# Altium footprint library SMD Capacitors 0603.PcbLib: 5 footprints
Each footprint in its own frame and in the unit in brackets; x right, y up, seen from the top. Pads: shape width x height; smd on the part's side, far side on the other; paste and mask are expansions set on the pad; w line width, h text height; cw(c..) or ccw(c..) is an arc to the next point about the centre after c.
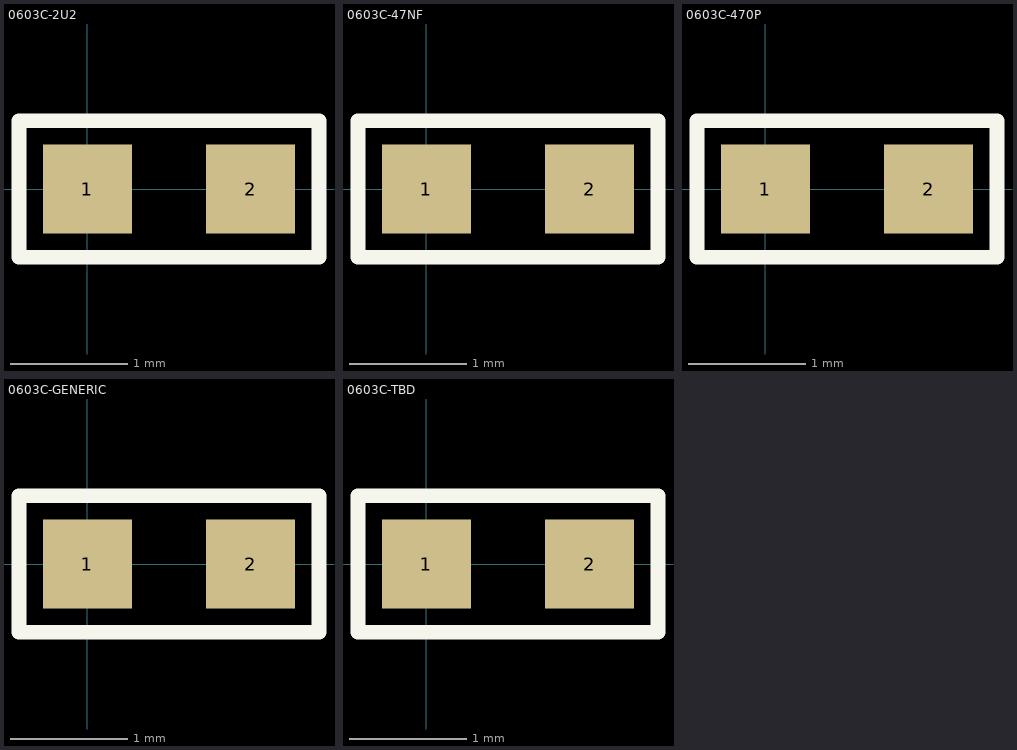
[diagram p0: the footprints below, top view; thin cyan lines are the x and y axes]

## 0603C-2U2 [mil] "CAPACITOR 0603"
pads (2):
  rect 30x30 smd: 1(0,0) 2(55,0)
Top Overlay:
  lines w5: -23,-23 -23,23 78,23 78,-23 -23,-23
3D body: height 18, standoff 11, extent 18,-4 23,6
3D body: height 19, standoff 0, extent -4,-15 12,15
3D body: height 19, standoff 0, extent 43,-15 59,15
3D body: height 18, standoff 0, extent -3,-14 58,14
3D body: height 18, standoff 11, extent 25,-9 30,1
3D body: height 18, standoff 11, extent 31,-4 36,6

## 0603C-47NF [mil] "CAPACITOR 0603"
pads (2):
  rect 30x30 smd: 1(0,0) 2(55,0)
Top Overlay:
  lines w5: -23,-23 -23,23 78,23 78,-23 -23,-23
3D body: height 19, standoff 18, extent 29,-5 34,1
3D body: height 18, standoff 11, extent 21.5,-5 26.5,5
3D body: height 18, standoff 11, extent 15,-5 20,5
3D body: height 19, standoff 0, extent -4,-15 12,15
3D body: height 19, standoff 0, extent 43,-15 59,15
3D body: height 18, standoff 0, extent -3,-14 58,14

## 0603C-470P [mil] "CAPACITOR 0603"
pads (2):
  rect 30x30 smd: 1(0,0) 2(55,0)
Top Overlay:
  lines w5: -23,-23 78,-23 78,23 -23,23 -23,-23
3D body: height 12, standoff 11, extent 18,-5 23,5
3D body: height 12, standoff 0, extent -3,-14 58,14
3D body: height 19, standoff 0, extent 43,-15 59,15
3D body: height 19, standoff 0, extent -4,-15 12,15
3D body: height 11, standoff 10, extent 31,-5 36,5
3D body: height 12, standoff 11, extent 24.5,-5 29.5,5

## 0603C-GENERIC [mil] "CAPACITOR 0603"
pads (2):
  rect 30x30 smd: 1(0,0) 2(55,0)
Top Overlay:
  lines w5: -23,-23 -23,23 78,23 78,-23 -23,-23
3D body: height 11, standoff 10, extent 7,-12 12,-2
3D body: height 11, standoff 10, extent 14.5,-12 19.5,-2
3D body: height 11, standoff 10, extent 22,-12 27,-2
3D body: height 11, standoff 10, extent 44.5,3 49.5,13
3D body: height 11, standoff 10, extent 37,3 42,13
3D body: height 11, standoff 10, extent 14.5,3 19.5,13
3D body: height 11, standoff 10, extent 7,3 12,13
3D body: height 11, standoff 10, extent 22,3 27,13
3D body: height 11, standoff 10, extent 29.5,3 34.5,13
3D body: height 11, standoff 10, extent 29.5,-12 34.5,-2
3D body: height 19, standoff 0, extent -4,-15 12,15
3D body: height 19, standoff 0, extent 43,-15 59,15
3D body: height 18, standoff 0, extent -3,-14 58,14
3D body: height 11, standoff 10, extent 44.5,-12 49.5,-2

## 0603C-TBD [mil] "CAPACITOR 0603 TBD"
pads (2):
  rect 30x30 smd: 1(0,0) 2(55,0)
Top Overlay:
  lines w5: -23,-23 -23,23 78,23 78,-23 -23,-23
3D body: height 19, standoff 0, extent -4,-15 12,15
3D body: height 19, standoff 0, extent 43,-15 59,15
3D body: height 18, standoff 0, extent -3,-14 58,14
3D body: height 19, standoff 18, extent 18,-2 23,6
3D body: height 19, standoff 18, extent 20,-4 21,-3
3D body: height 19, standoff 18, extent 31,-2 36,6
3D body: height 19, standoff 18, extent 33,-4 34,-3
3D body: height 19, standoff 18, extent 26.5,-4 27.5,-3
3D body: height 19, standoff 18, extent 24.5,-2 29.5,6